# Altium footprint library test_points.PcbLib: 33 footprints (part 2 of 3)
Each footprint in its own frame and in the unit in brackets; x right, y up, seen from the top. Pads: shape width x height; smd on the part's side, far side on the other; paste and mask are expansions set on the pad; w line width, h text height; cw(c..) or ccw(c..) is an arc to the next point about the centre after c.
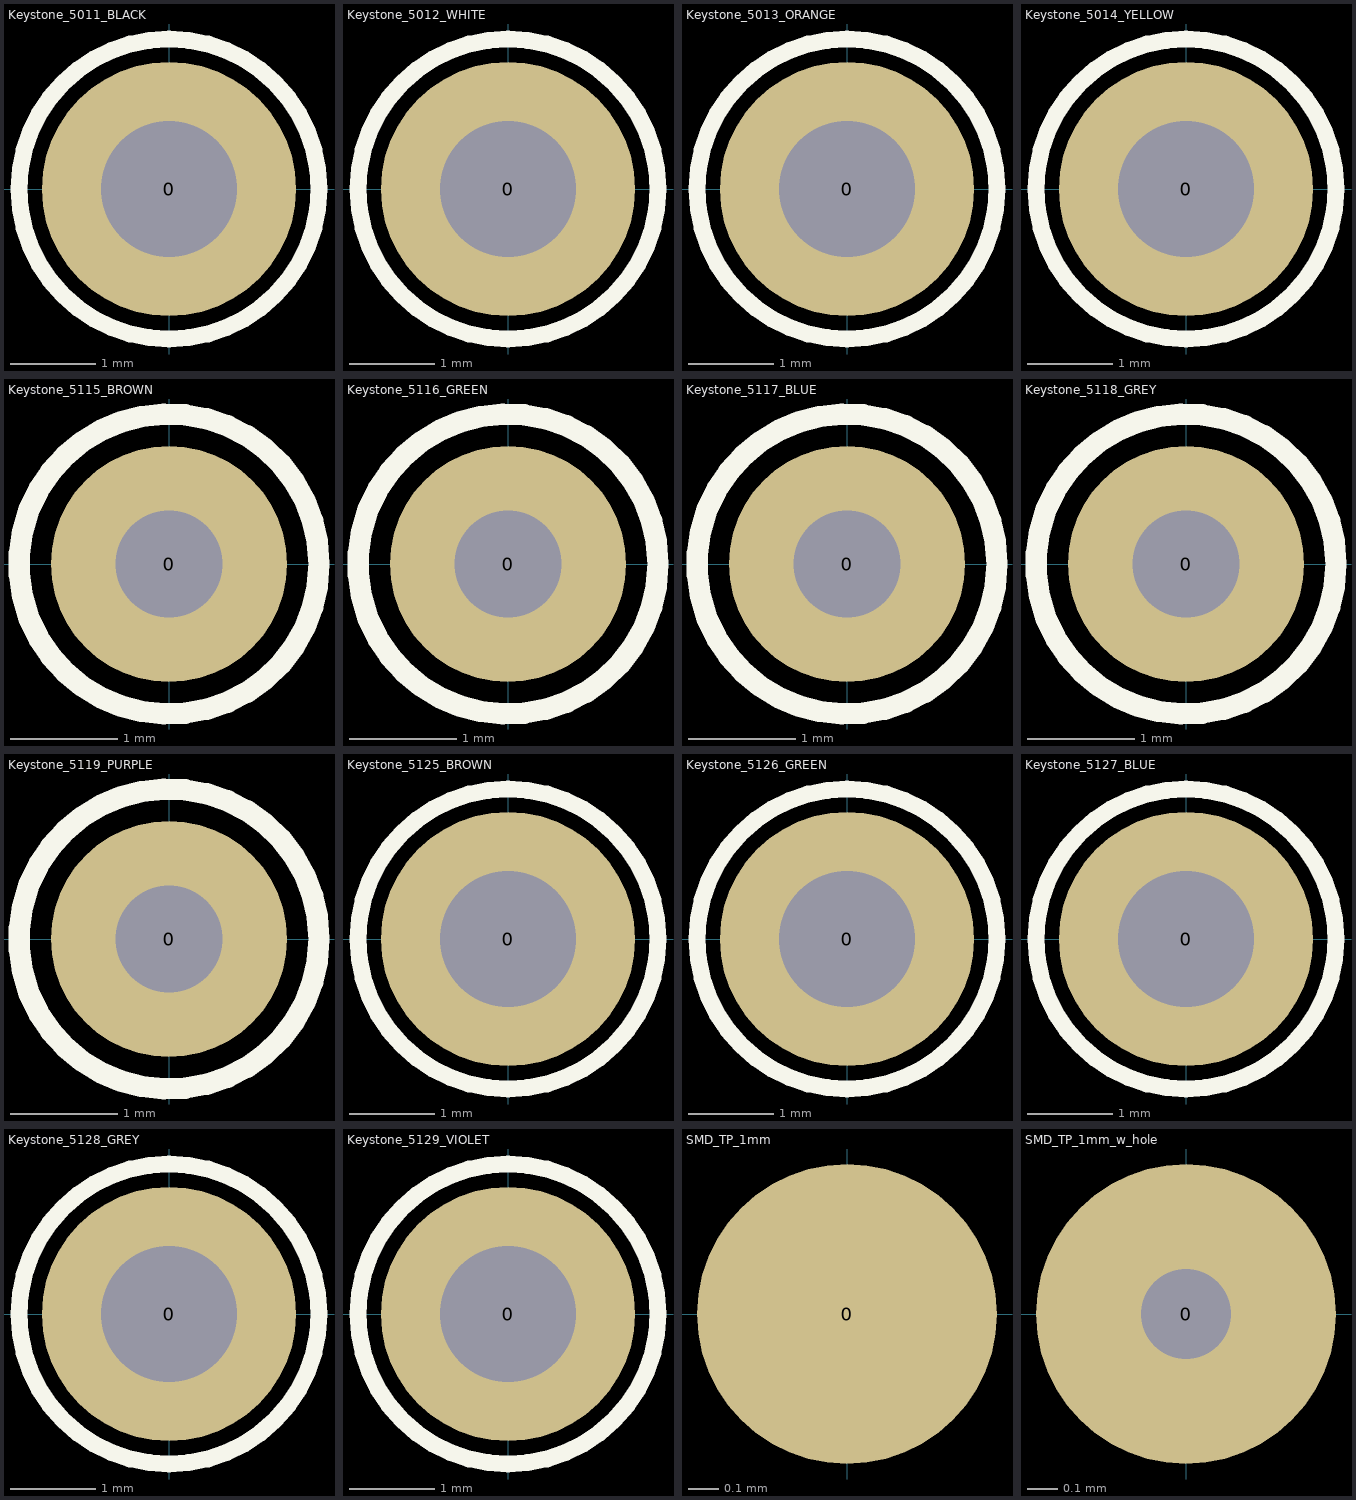
[diagram p1: the footprints below, top view; thin cyan lines are the x and y axes]

## Keystone_5011_BLACK [mm] "Black Keystone Electronics 5011 Test Point"
pads (1):
  round 3 hole 1.6: 0(0,0)
Top Overlay:
  circle w0.2: c0,0 r1.769
3D body "User Library-TEST POINT BLK Keystone 5011.step": height 8.13, standoff -3.1, extent -1.588,-1.587 1.587,1.588

## Keystone_5012_WHITE [mm] "White Keystone Electronics 5012 Test Point"
pads (1):
  round 3 hole 1.6: 0(0,0)
Top Overlay:
  circle w0.2: c0,0 r1.769
3D body "User Library-TEST POINT WHT Keystone 5012.step": height 8.13, standoff -3.1, extent -1.588,-1.587 1.587,1.588

## Keystone_5013_ORANGE [mm] "Orange Keystone Electronics 5013 Test Point"
pads (1):
  round 3 hole 1.6: 0(0,0)
Top Overlay:
  circle w0.2: c0,0 r1.769
3D body "User Library-TEST POINT ORN Keystone 5013.step": height 8.13, standoff -3.1, extent -1.588,-1.587 1.587,1.588

## Keystone_5014_YELLOW [mm] "Yellow Keystone Electronics 5014 Test Point"
pads (1):
  round 3 hole 1.6: 0(0,0)
Top Overlay:
  circle w0.2: c0,0 r1.769
3D body "User Library-TEST POINT YEL Keystone 5014.step": height 8.13, standoff -3.1, extent -1.588,-1.587 1.587,1.587

## Keystone_5115_BROWN [mm] "Brown Keystone Electronics 5115 Test Point"
pads (1):
  round 2.2 hole 1: 0(0,0)
Top Overlay:
  circle w0.2: c0,0 r1.397
3D body "User Library-Test Point Keystone - 5115 BROWN.STEP": height 4.57, standoff -3.05, extent -1.27,-1.27 1.27,1.27

## Keystone_5116_GREEN [mm] "Green Keystone Electronics 5116 Test Point"
pads (1):
  round 2.2 hole 1: 0(0,0)
Top Overlay:
  circle w0.2: c0,0 r1.397
3D body "User Library-Test Point Keystone - 5116 GREEN.STEP": height 4.57, standoff -3.05, extent -1.27,-1.27 1.27,1.27

## Keystone_5117_BLUE [mm] "Blue Keystone Electronics 5117 Test Point"
pads (1):
  round 2.2 hole 1: 0(0,0)
Top Overlay:
  circle w0.2: c0,0 r1.397
3D body "User Library-Test Point Keystone - 5117 BLUE.STEP": height 4.57, standoff -3.05, extent -1.27,-1.27 1.27,1.27

## Keystone_5118_GREY [mm] "Grey Keystone Electronics 5118 Test Point"
pads (1):
  round 2.2 hole 1: 0(0,0)
Top Overlay:
  circle w0.2: c0,0 r1.397
3D body "User Library-Test Point Keystone - 5118 GREY.STEP": height 4.57, standoff -3.05, extent -1.27,-1.27 1.27,1.27

## Keystone_5119_PURPLE [mm] "Purple Keystone Electronics 5119 Test Point"
pads (1):
  round 2.2 hole 1: 0(0,0)
Top Overlay:
  circle w0.2: c0,0 r1.397
3D body "User Library-Test Point Keystone - 5119 PURPLE.STEP": height 4.57, standoff -3.05, extent -1.27,-1.27 1.27,1.27

## Keystone_5125_BROWN [mm] "Brown Keystone Electronics 5125 Test Point"
pads (1):
  round 3 hole 1.6: 0(0,0)
Top Overlay:
  circle w0.2: c0,0 r1.769
3D body "User Library-TEST POINT BRN Keystone 5125.step": height 8.13, standoff -3.1, extent -1.588,-1.587 1.587,1.588

## Keystone_5126_GREEN [mm] "Green Keystone Electronics 5126 Test Point"
pads (1):
  round 3 hole 1.6: 0(0,0)
Top Overlay:
  circle w0.2: c0,0 r1.769
3D body "User Library-TEST POINT GRN Keystone 5126.step": height 8.13, standoff -3.1, extent -1.588,-1.587 1.587,1.588

## Keystone_5127_BLUE [mm] "Blue Keystone Electronics 5127 Test Point"
pads (1):
  round 3 hole 1.6: 0(0,0)
Top Overlay:
  circle w0.2: c0,0 r1.769
3D body "User Library-TEST POINT BLU Keystone 5127.step": height 8.13, standoff -3.1, extent -1.588,-1.587 1.587,1.588

## Keystone_5128_GREY [mm] "Grey Keystone Electronics 5128 Test Point"
pads (1):
  round 3 hole 1.6: 0(0,0)
Top Overlay:
  circle w0.2: c0,0 r1.769
3D body "User Library-TEST POINT GRY Keystone 5128.step": height 8.13, standoff -3.1, extent -1.588,-1.587 1.587,1.588

## Keystone_5129_VIOLET [mm] "Violet Keystone Electronics 5129 Test Point"
pads (1):
  round 3 hole 1.6: 0(0,0)
Top Overlay:
  circle w0.2: c0,0 r1.769
3D body "User Library-TEST POINT VIO Keystone 5129.step": height 8.13, standoff -3.1, extent -1.588,-1.587 1.587,1.588

## SMD_TP_1mm [mm]
pads (1):
  round 1 smd: 0(0,0)

## SMD_TP_1mm_w_hole [mm]
pads (1):
  round 1 smd: 0(0,0)
via 0,0 diameter 0.6 hole 0.3